# Altium footprint library 6_to_14_Pin.PcbLib: 65 footprints (part 5 of 5)
Each footprint in its own frame and in the unit in brackets; x right, y up, seen from the top. Pads: shape width x height; smd on the part's side, far side on the other; paste and mask are expansions set on the pad; w line width, h text height; cw(c..) or ccw(c..) is an arc to the next point about the centre after c.
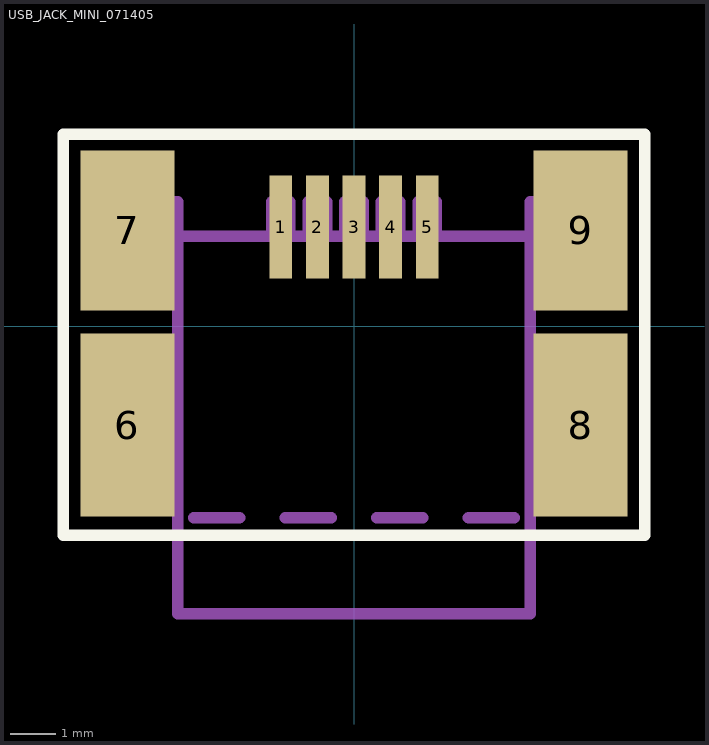
[diagram p4: the footprint, top view; thin cyan lines are the x and y axes]

## USB_JACK_MINI_071405 [mm] "SM"
height 3.95
pads (9):
  rect 0.5x2.25 smd mask+0.051: 1(-1.6,2.163) 2(-0.8,2.163) 3(0,2.163) 4(0.8,2.163) 5(1.6,2.163)
  rect 2.05x4 smd mask+0.051: 6(-4.95,-2.163) 8(4.95,-2.163)
  rect 2.05x3.5 smd mask+0.051: 7(-4.95,2.087) 9(4.95,2.087)
Top Overlay:
  lines w0.254: -6.35,-4.572 0,-4.572 6.35,-4.572 6.35,0 6.35,4.191 0,4.191 -6.35,4.191 -6.35,0 -6.35,-4.572
Assembly Outline:
  lines w0.254: -4.95,-2.287 -4.95,-3.287 ; -4.45,-1.287 -4.95,-1.287 ; -3.85,-3.287 -4.95,-3.287 ; -3.85,-1.287 -4.95,-1.287 ; -3.85,1.213 -4.95,1.213 -4.95,2.713 -3.85,2.713 ; -3.5,-4.187 -2.5,-4.187 ; -1.6,1.963 -1.8,1.963 -1.8,2.713 -1.6,2.713 -1.4,2.713 -1.4,1.963 ; -1.5,-4.187 -0.5,-4.187 ; -0.8,1.963 -1,1.963 -1,2.713 -0.8,2.713 -0.6,2.713 -0.6,1.963 ; 0,-6.287 -3.85,-6.287 ; 0,1.963 -0.2,1.963 -0.2,2.713 0,2.713 0.2,2.713 0.2,1.963 ; 0.5,-4.187 1.5,-4.187 ; 0.8,1.963 0.6,1.963 0.6,2.713 0.8,2.713 1,2.713 1,1.963 ; 1.6,1.963 1.4,1.963 1.4,2.713 1.6,2.713 1.8,2.713 1.8,1.963 ; 2.5,-4.187 3.5,-4.187 ; 3.85,-4.287 3.85,-6.287 ; 3.85,-1.287 4.95,-1.287 ; 3.85,1.213 4.95,1.213 ; 4.45,-1.287 4.95,-1.287 ; 4.95,-2.287 4.95,-3.287 ; 4.95,1.963 4.95,1.213 ; -4.95,-3.287 -4.95,-1.287 ; -3.85,-6.287 3.85,-6.287 ; -3.85,-6.287 -3.85,2.713 ; -3.85,2.713 -3.85,1.963 1.975,1.963 3.85,1.963 3.85,2.713 ; 3.85,-6.287 3.85,2.713 ; 3.85,-6.287 3.85,-3.287 4.95,-3.287 ; 3.85,2.713 4.95,2.713 4.95,1.213 ; 4.95,-3.287 4.95,-1.287
  text "EDGE" at -1.75,-3.812 h1.02
Assembly Designator:
  text ".Designator" at -1,-1.7 h1.02
Assembly Comment:
  text ".Comment" at -3.575,3.65 h1.02